# Altium footprint library miniMMC_v2.PcbLib: 24 footprints (part 2 of 2)
Each footprint in its own frame and in the unit in brackets; x right, y up, seen from the top. Pads: shape width x height; smd on the part's side, far side on the other; paste and mask are expansions set on the pad; w line width, h text height; cw(c..) or ccw(c..) is an arc to the next point about the centre after c.
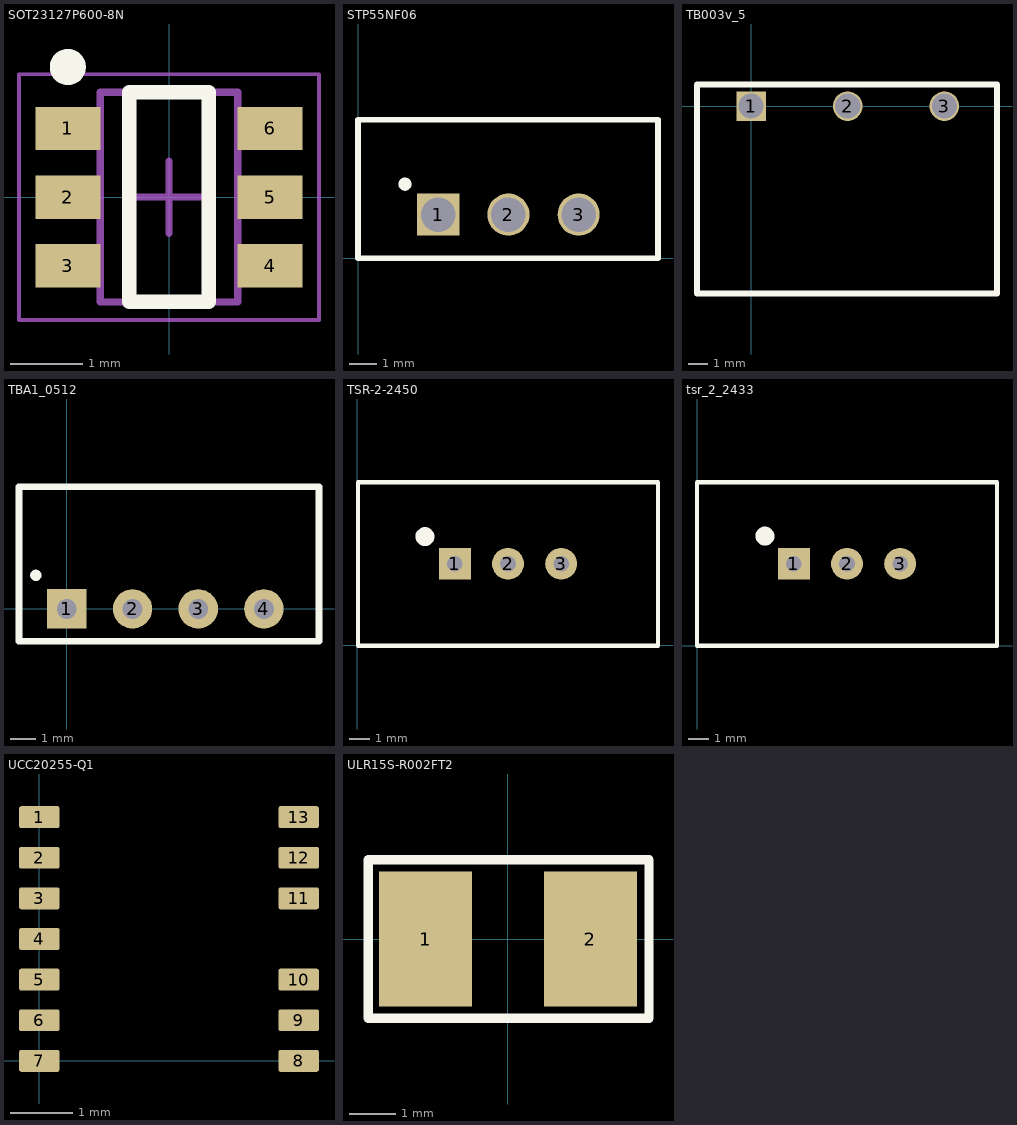
[diagram p1: the footprints below, top view; thin cyan lines are the x and y axes]

## SOT23127P600-8N [mm] "IRS25752LTRPBF MOSFET Driver"
height 1.45
pads (6):
  rect 0.9x0.6 smd: 1(-1.4,0.95) 2(-1.4,0) 3(-1.4,-0.95) 4(1.4,-0.95) 5(1.4,0) 6(1.4,0.95)
Top Overlay:
  circle w0.25: c-1.4,1.8 r0.125
  lines w0.2: -0.55,-1.45 -0.55,1.45 0.55,1.45 0.55,-1.45 -0.55,-1.45
Mechanical 13:
  lines w0.1: -0.95,-1.45 0.95,-1.45 0.95,1.45 -0.95,1.45 -0.95,-1.45
Mechanical 15:
  lines w0.05: -2.075,-1.7 2.075,-1.7 2.075,1.7 -2.075,1.7 -2.075,-1.7
  lines w0.1: -0.5,0 0.5,0 ; 0,-0.5 0,0.5
3D body "SOT23127P600-8N.step": height 1.45, standoff 0, extent -1.4,-1.45 1.4,1.45

## STP55NF06 [mm]
pads (3):
  rect 1.524x1.524 hole 1.25: 1(2.9,1.575)
  round 1.524 hole 1.25: 2(5.44,1.575) 3(7.98,1.575)
Top Overlay:
  circle w0.254: c1.7,2.675 r0.112
  lines w0.2: 0,0 0,5 10.85,5 10.85,0 0,0
3D body: height 0.25, standoff -15.82, extent -15.35,10.6 -15.35,10.6
3D body "STP55NF06 v6.step": height 19.79, standoff -9.49, extent 0.218,0.055 10.662,4.675

## TB003v_5 [mil]
pads (3):
  rect 60x60 hole 51.18: 1(0,0)
  round 60 hole 51.18: 2(196.85,0) 3(393.7,0)
Top Overlay:
  lines w11.81: -110.24,-381.89 -110.24,44.29 500.98,44.29 500.98,-381.89 -110.24,-381.89
3D body "TB003V_500 v2.step": height 306.05, standoff -137.28, extent -100.89,-370.08 490.65,35.43

## TBA1_0512 [mil]
pads (4):
  rect 60x60 hole 30: 1(0,0)
  round 60 hole 30: 2(100,0) 3(200,0) 4(300,0)
Top Overlay:
  circle w10: c-47.24,51.18 r3.55
  lines w10: -72.83,-49.21 383.86,-49.21 383.86,186.02 -72.83,186.02 -72.83,-49.21
3D body "TBA1_0512 v1.step": height 382.9, standoff -116.42, extent -75.82,-49.21 382.91,187.01

## TSR-2-2450 [mm]
pads (3):
  rect 1.524x1.524 hole 0.75: 1(4.66,3.9)
  round 1.524 hole 0.75: 2(7.2,3.9) 3(9.74,3.9)
Top Overlay:
  lines w0.2: 0.025,-0.025 14.375,-0.025 14.375,7.8 0.025,7.8 0.025,-0.025
  lines w0.5: 3.424,5.215 ccw(c3.225,5.2) 3.425,5.2
3D body "tsr_2_2450 v1.step": height 10.11, standoff -3.19, extent 0.2,0.15 14.2,7.65

## tsr_2_2433 [mm] "DC/DC converter 4.75-36VDC 3.3V 2A"
pads (3):
  rect 1.524x1.524 hole 0.75: 1(4.635,3.925)
  round 1.524 hole 0.75: 2(7.175,3.925) 3(9.715,3.925)
Top Overlay:
  lines w0.2: 0,0 0,7.825 14.35,7.825 14.35,0 0,0
  lines w0.5: 3.449,5.265 ccw(c3.25,5.25) 3.45,5.25
3D body "tsr_2_2433.step": height 10.11, standoff -3.19, extent 0.175,0.15 14.175,7.65

## UCC20255-Q1 [mm]
pads (13):
  rrect20% 0.65x0.35 smd mask+0.07: 1(0,3.9) 2(0,3.25) 3(0,2.6) 4(0,1.95) 5(0,1.3) 6(0,0.65) 7(0,0) 8(4.15,0) 9(4.15,0.65) 10(4.15,1.3) 11(4.15,2.6) 12(4.15,3.25) 13(4.15,3.9)
3D body "UCC20255-Q1 v1.step": height 1.06, standoff -0.02, extent -0.425,-0.55 4.575,4.45

## ULR15S-R002FT2 [mm]
pads (2):
  rect 1.99x2.9 smd: 1(-1.77,0) 2(1.77,0)
Top Overlay:
  lines w0.2: -3,-1.7 3.025,-1.7 3.025,1.7 -3,1.7 -3,-1.7
3D body "Resitor_SMD_ULR15S_R002FT2 v1.step": height 0.71, standoff 0.01, extent -2.615,-1.275 2.565,1.265